# Altium schematic symbol library NCP5623.Schlib: 1 symbol
Pins are listed as number, name and electrical type; pins without a type are passive.

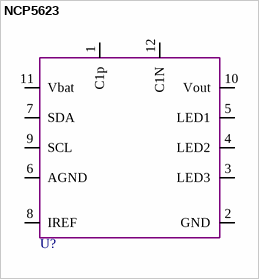
[diagram p0: symbol NCP5623]

## NCP5623
designator U?  (value not drawn)
U_NCP5623_LLGA12
pins: 1 C1p, 2 GND, 3 LED3, 4 LED2, 5 LED1, 6 AGND, 7 SDA, 8 IREF, 9 SCL, 10 Vout, 11 Vbat, 12 C1N
2 alternate drawings of the same symbol